# EAGLE library part SC16IS752 (library paparazzi)
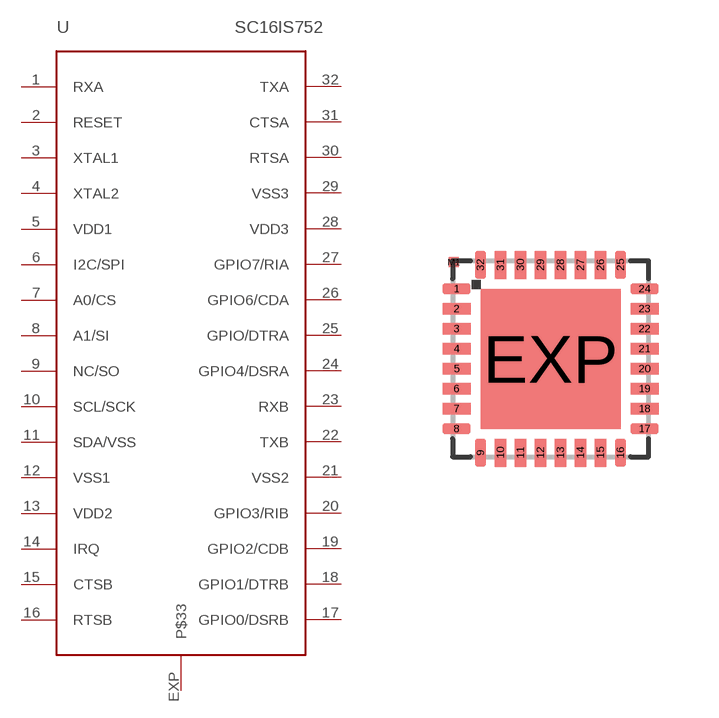
[diagram p60: symbol with the pads of HVQFN32; footprint HVQFN32]

Designator prefix -

## SC16IS752  [HVQFN32]
1  RXA
2  RESET
3  XTAL1
4  XTAL2
5  VDD1
6  I2C/SPI
7  A0/CS
8  A1/SI
9  NC/SO
10  SCL/SCK
11  SDA/VSS
12  VSS1
13  VDD2
14  IRQ
15  CTSB
16  RTSB
17  GPIO0/DSRB
18  GPIO1/DTRB
19  GPIO2/CDB
20  GPIO3/RIB
21  VSS2
22  TXB
23  RXB
24  GPIO4/DSRA
25  GPIO/DTRA
26  GPIO6/CDA
27  GPIO7/RIA
28  VDD3
29  VSS3
30  RTSA
31  CTSA
32  TXA
EXP  P$33

## Footprint HVQFN32 (pad centres in mm)
HVQFN32 (SOT617-3) 5 x 5 x .85 mm, Pitch 0.5mm Source: http://www.semiconductors.philips.com/acrobat_download/datasheets/TDA9885_TDA9886_2.pdf
smd 0.7 x 0.28: 1 -2.35,1.75; 2 -2.35,1.25; 3 -2.35,0.75; 4 -2.35,0.25; 5 -2.35,-0.25; 6 -2.35,-0.75; 7 -2.35,-1.25; 8 -2.35,-1.75; 17 2.35,-1.75; 18 2.35,-1.25; 19 2.35,-0.75; 20 2.35,-0.25; 21 2.35,0.25; 22 2.35,0.75; 23 2.35,1.25; 24 2.35,1.75
smd 0.28 x 0.7: 9 -1.75,-2.35; 10 -1.25,-2.35; 11 -0.75,-2.35; 12 -0.25,-2.35; 13 0.25,-2.35; 14 0.75,-2.35; 15 1.25,-2.35; 16 1.75,-2.35; 25 1.75,2.35; 26 1.25,2.35; 27 0.75,2.35; 28 0.25,2.35; 29 -0.25,2.35; 30 -0.75,2.35; 31 -1.25,2.35; 32 -1.75,2.35
smd 3.5 x 3.5: EXP 0,0
smd 0.25 x 0.25: M1 -2.415,2.415